# Altium schematic symbol library HI8591-SO8.SchLib: 1 symbol
Pins are listed as number, name and electrical type; pins without a type are passive.

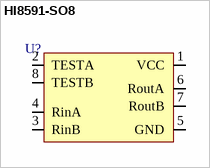
[diagram p0: symbol HI8591-SO8]

## HI8591-SO8
designator U?  (value not drawn)
pins: 1 VCC, 2 TESTA, 3 RinB, 4 RinA, 5 GND, 6 RoutA, 7 RoutB, 8 TESTB